# Altium footprint library 继电器板.PcbLib: 19 footprints (part 1 of 2)
Each footprint in its own frame and in the unit in brackets; x right, y up, seen from the top. Pads: shape width x height; smd on the part's side, far side on the other; paste and mask are expansions set on the pad; w line width, h text height; cw(c..) or ccw(c..) is an arc to the next point about the centre after c.
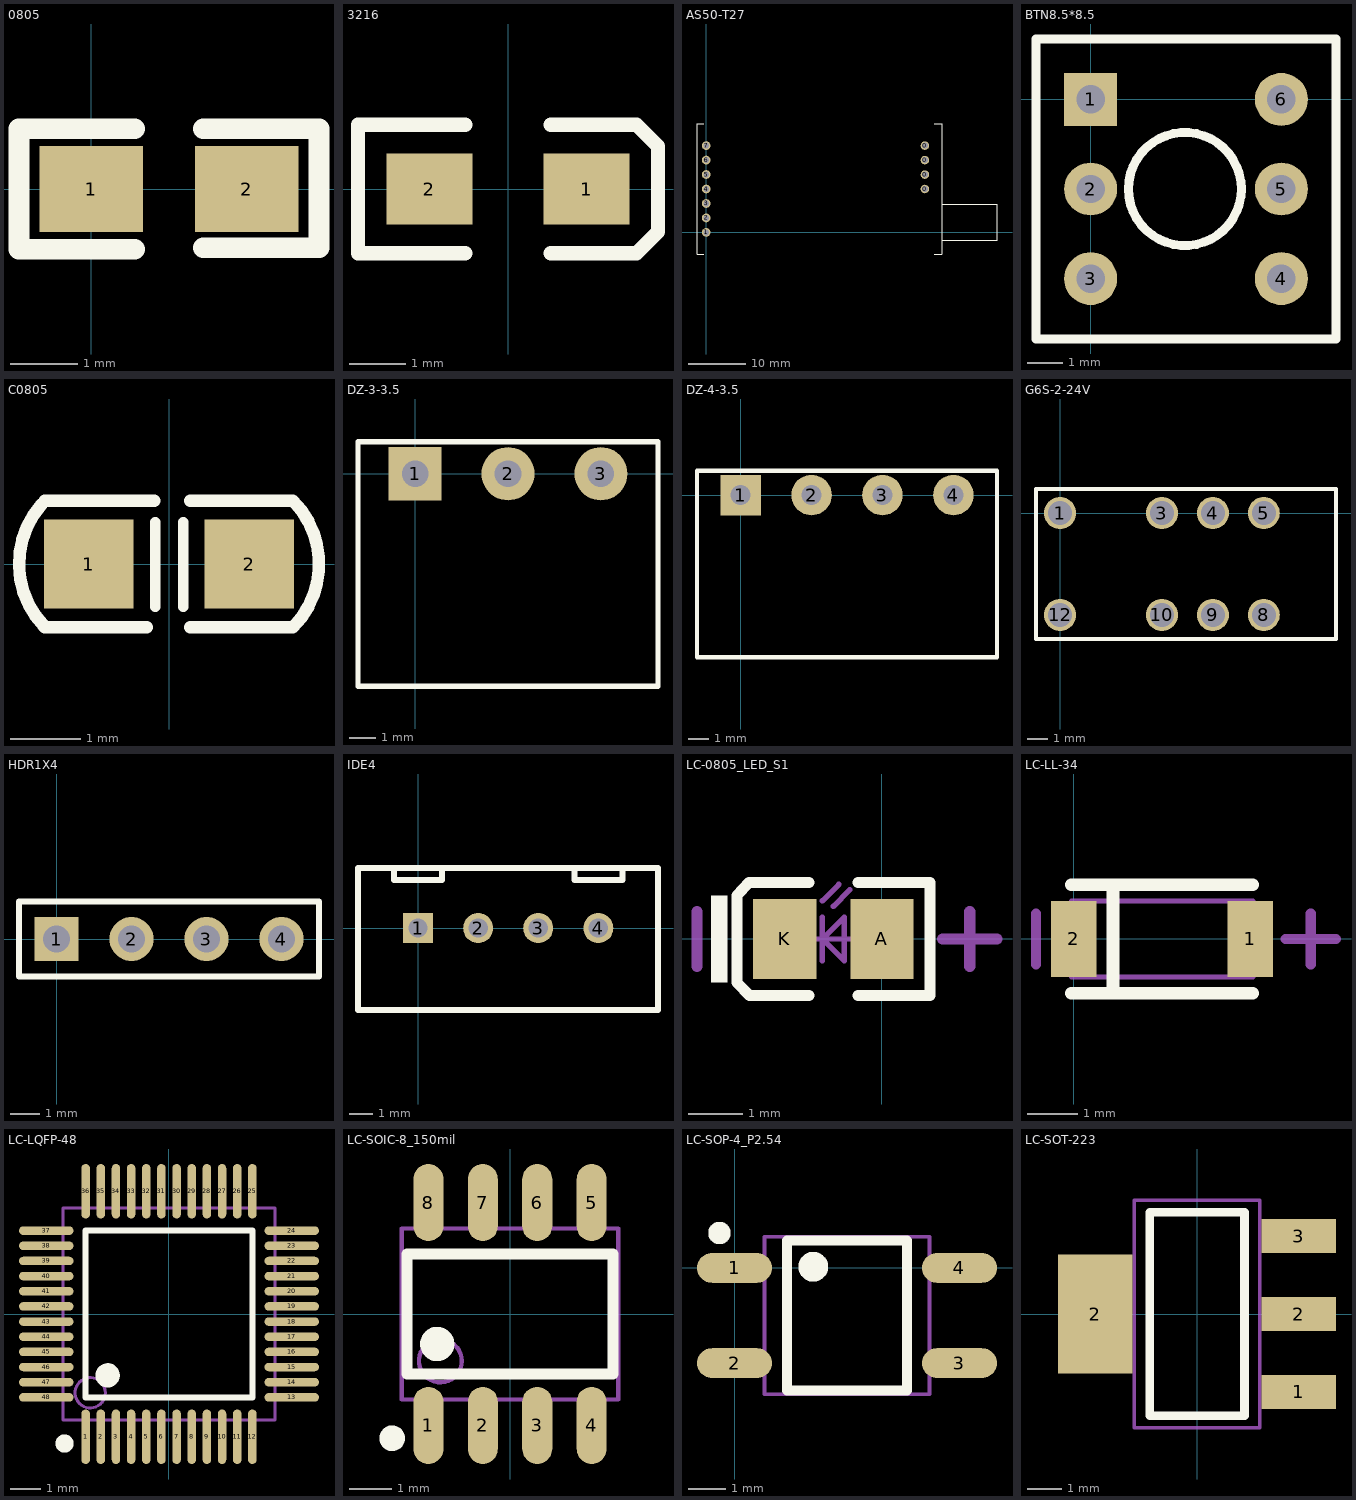
[diagram p0: the footprints below, top view; thin cyan lines are the x and y axes]

## 0805 [mil]
height 68.9
pads (2):
  rect 60x50 smd: 1(0,0) 2(90,0)
Top Overlay:
  lines w12: 25,-35 -42,-35 -42,35 25,35 ; 65,-34 132,-34 132,35 65,35

## 3216 [mil]
pads (2):
  rect 60x50 smd: 1(55,0) 2(-55,0)
Top Overlay:
  lines w10: -30,-45 -105,-45 -105,45 -30,45 ; 30,-45 90,-45 105,-30 105,30 90,45 30,45
3D body: height 62.99, standoff 0, extent -64.98,-30.99 61,32

## AS50-T27 [mm]
pads (11):
  round 1.5 hole 1: 0(38.4,7.62) 0(38.4,10.16) 0(38.4,12.7) 0(38.4,15.24)
  round 1.524 hole 1: 1(0,0) 2(0,2.54) 3(0,5.08) 4(0,7.62) 5(0,10.16) 6(0,12.7) 7(0,15.24)
Top Overlay:
  lines w0.2: -0.381,-3.85 -1.6,-3.85 -1.6,0 -1.6,15.24 -1.6,19.09 -0.381,19.09 ; 40.005,-3.85 40.386,-3.85 41.387,-3.85 ; 40.005,19.09 41.4,19.09 41.4,4.928 ; 41.4,-3.837 41.4,4.928 ; 41.502,-1.372 49.936,-1.372 51.05,-1.372 51.05,4.928 49.936,4.928 41.4,4.928

## BTN8.5*8.5 [mm]
height 1.75
pads (6):
  rect 1.5x1.5 hole 0.8: 1(0,0)
  round 1.5 hole 0.8: 2(0,-2.54) 3(0,-5.08) 4(5.4,-5.08) 5(5.4,-2.54) 6(5.4,0)
Top Overlay:
  circle w0.254: c2.667,-2.54 r1.6
  lines w0.254: -1.55,-6.79 6.95,-6.79 6.95,1.71 -1.55,1.71 -1.55,-6.79

## C0805 [mil]
pads (2):
  rect 50x50 smd: 1(-45,0) 2(45,0)
Top Overlay:
  lines w5.91: -7.75,-23.83 -7.75,23.41 ; 8,-23.83 8,23.41
  lines w7: -71.39,33.35 ccw(c-33.74,0) -70.09,-34.77 ; -69.64,-35.43 -12.52,-35.43 ; -69.64,35.43 -8.39,35.43 ; 11.82,-35.43 69.17,-35.43 ; 11.82,35.43 69.17,35.43 ; 69.31,-35.57 ccw(c33.74,0) 69.31,35.57
3D body: height 19.68, standoff 0, extent -39,-25 39.74,24.21

## DZ-3-3.5 [mm]
pads (3):
  rect 2x2 hole 1: 1(0,0)
  round 2 hole 1: 2(3.5,0) 3(7,0)
Top Overlay:
  lines w0.2: 5.65,1.2 3.5,1.2 ; 3.5,1.2 0,1.2 -2.15,1.2 -2.15,-8 5.65,-8 9.15,-8 9.15,1.2 7,1.2 3.5,1.2

## DZ-4-3.5 [mm]
pads (4):
  rect 2x2 hole 1: 1(0,0)
  round 2 hole 1: 2(3.5,0) 3(7,0) 4(10.5,0)
Top Overlay:
  lines w0.2: 5.65,1.2 3.5,1.2 ; 3.5,1.2 7,1.2 ; 3.5,1.2 0,1.2 -2.15,1.2 -2.15,-8 5.65,-8 9.15,-8 12.65,-8 12.65,1.2 10.5,1.2 7,1.2 ; 7,1.2 9.15,1.2 7,1.2

## G6S-2-24V [mm]
pads (8):
  round 1.6 hole 1.2: 1(0,0) 3(5.08,0) 4(7.62,0) 5(10.16,0) 8(10.16,-5.08) 9(7.62,-5.08) 10(5.08,-5.08) 12(0,-5.08)
Top Overlay:
  lines w0.2: -1.2,-6.28 -1.2,0 -1.2,1.2 0,1.2 11.36,1.2 13.76,1.2 13.76,0 13.76,-6.28 11.36,-6.28 10.16,-6.28 -1.2,-6.28

## HDR1X4 [mm]
height 1.75
pads (4):
  rect 1.5x1.5 hole 0.9: 1(0,0)
  round 1.5 hole 0.9: 2(2.54,0) 3(5.08,0) 4(7.62,0)
Top Overlay:
  lines w0.2: -1.27,-1.27 8.89,-1.27 8.89,1.27 -1.27,1.27 -1.27,-1.27

## IDE4 [mil]
pads (4):
  rect 50x50 hole 32: 1(0,0)
  round 50 hole 32: 2(100,0) 3(200,0) 4(300,0)
Top Overlay:
  lines w10: -40,100 -40,80 40,80 40,100 ; 260,100 340,100 ; 260,100 260,80 340,80 340,100 ; 260,100 -100,100 -100,-136.22 299.37,-136.22 399.37,-136.22 399.37,100 340,100

## LC-0805_LED_S1 [mm]
pads (2):
  rect 1.16x1.47 smd: A(0.001,0) K(-1.779,0)
Top Overlay:
  rectangle: -3.134,-0.8 -2.834,0.8
  lines w0.2: -1.339,-1.035 -2.424,-1.035 -2.659,-0.8 -2.659,0.8 -2.439,1.035 -1.339,1.035 ; -0.439,-1.035 0.881,-1.035 0.881,1.035 -0.439,1.035
Mechanical 13:
  lines w0.1: -1.289,0 -0.489,0 ; -1.089,-0.4 -1.089,0.4 ; -1.089,0.7 -0.789,1 ; -0.889,0.6 -0.589,0.9 ; -1.089,0 -0.689,-0.4 -0.689,0.4 -1.089,0
Mechanical 15:
  lines w0.203: -3.389,-0.5 -3.389,0.5 ; 1.111,0 2.111,0 ; 1.611,-0.5 1.611,0.5
3D body: height 1.1, standoff 0, extent -1.899,-0.625 0.121,0.625

## LC-LL-34 [mm]
pads (2):
  rect 0.9x1.5 smd: 1(3.5,0) 2(0,0)
Top Overlay:
  lines w0.254: -0.05,-1.075 3.55,-1.075 ; -0.05,1.075 3.55,1.075 ; 0.775,-1.075 0.775,1.075
Mechanical 13:
  lines w0.1: -0.05,-0.75 -0.05,0.75 3.55,0.75 3.55,-0.75 -0.05,-0.75
Mechanical 15:
  lines w0.203: -0.75,-0.5 -0.75,0.5 ; 4.2,0 5.2,0 ; 4.7,-0.5 4.7,0.5

## LC-LQFP-48 [mm]
pads (48):
  oval 0.28x1.8 smd mask+0.051: 1(-2.75,-4.05) 2(-2.25,-4.05) 3(-1.75,-4.05) 4(-1.25,-4.05) 5(-0.75,-4.05) 6(-0.25,-4.05) 7(0.25,-4.05) 8(0.75,-4.05) 9(1.25,-4.05) 10(1.75,-4.05) 11(2.25,-4.05) 12(2.75,-4.05) 25(2.75,4.05) 26(2.25,4.05) 27(1.75,4.05) 28(1.25,4.05) 29(0.75,4.05) 30(0.25,4.05) 31(-0.25,4.05) 32(-0.75,4.05) 33(-1.25,4.05) 34(-1.75,4.05) 35(-2.25,4.05) 36(-2.75,4.05)
  oval 1.8x0.28 smd mask+0.051: 13(4.05,-2.75) 14(4.05,-2.25) 15(4.05,-1.75) 16(4.05,-1.25) 17(4.05,-0.75) 18(4.05,-0.25) 19(4.05,0.25) 20(4.05,0.75) 21(4.05,1.25) 22(4.05,1.75) 23(4.05,2.25) 24(4.05,2.75) 37(-4.05,2.75) 38(-4.05,2.25) 39(-4.05,1.75) 40(-4.05,1.25) 41(-4.05,0.75) 42(-4.05,0.25) 43(-4.05,-0.25) 44(-4.05,-0.75) 45(-4.05,-1.25) 46(-4.05,-1.75) 47(-4.05,-2.25) 48(-4.05,-2.75)
Top Overlay:
  circle w0.4: c-2.025,-2.025 r0.2
  circle w0.3: c-3.45,-4.275 r0.15
  lines w0.2: -2.75,-2.75 -2.75,2.75 2.75,2.75 2.75,-2.75 -2.75,-2.75
Mechanical 13:
  circle w0.1: c-2.6,-2.6 r0.5
  lines w0.1: -3.5,-3.5 -3.5,3.5 3.5,3.5 3.5,-3.5 -3.5,-3.5

## LC-SOIC-8_150mil [mm]
pads (8):
  oval 0.7x1.8 smd: 1(-1.905,-2.6) 2(-0.635,-2.6) 3(0.635,-2.6) 4(1.905,-2.6) 5(1.905,2.6) 6(0.635,2.6) 7(-0.635,2.6) 8(-1.905,2.6)
Top Overlay:
  circle w0.4: c-1.7,-0.7 r0.2
  circle w0.3: c-2.75,-2.9 r0.15
  lines w0.254: -2.4,-1.4 -2.4,1.4 2.4,1.4 2.4,-1.4 -2.4,-1.4
Mechanical 13:
  circle w0.1: c-1.625,-1.095 r0.5
  lines w0.1: -2.525,-1.995 -2.525,1.995 2.525,1.995 2.525,-1.995 -2.525,-1.995

## LC-SOP-4_P2.54 [mm]
pads (4):
  oval 2x0.8 smd: 1(0,0) 2(0,-2.54) 3(6,-2.54) 4(6,0)
Top Overlay:
  circle w0.3: c-0.4,0.93 r0.15
  circle w0.4: c2.1,0.03 r0.2
  lines w0.254: 1.4,-3.27 1.4,0.73 4.6,0.73 4.6,-3.27 1.4,-3.27
Mechanical 13:
  lines w0.1: 0.8,-3.37 0.8,0.83 5.2,0.83 5.2,-3.37 0.8,-3.37

## LC-SOT-223 [mm]
pads (4):
  rect 2.2x1 smd: 1(3,-2.3) 2(3,0) 3(3,2.3)
  rect 2.2x3.5 smd: 2(-3,0)
Top Overlay:
  lines w0.254: -1.4,-3 -1.4,3 1.4,3 1.4,-3 -1.4,-3
Mechanical 13:
  lines w0.1: -1.85,-3.35 1.85,-3.35 1.85,3.35 -1.85,3.35 -1.85,-3.35
3D body: height 1.64, standoff -0.04, extent -3.49,-3.242 3.49,3.243